# Altium schematic symbol library Schlib1.SchLib: 5 symbols
Pins are listed as number, name and electrical type; pins without a type are passive.

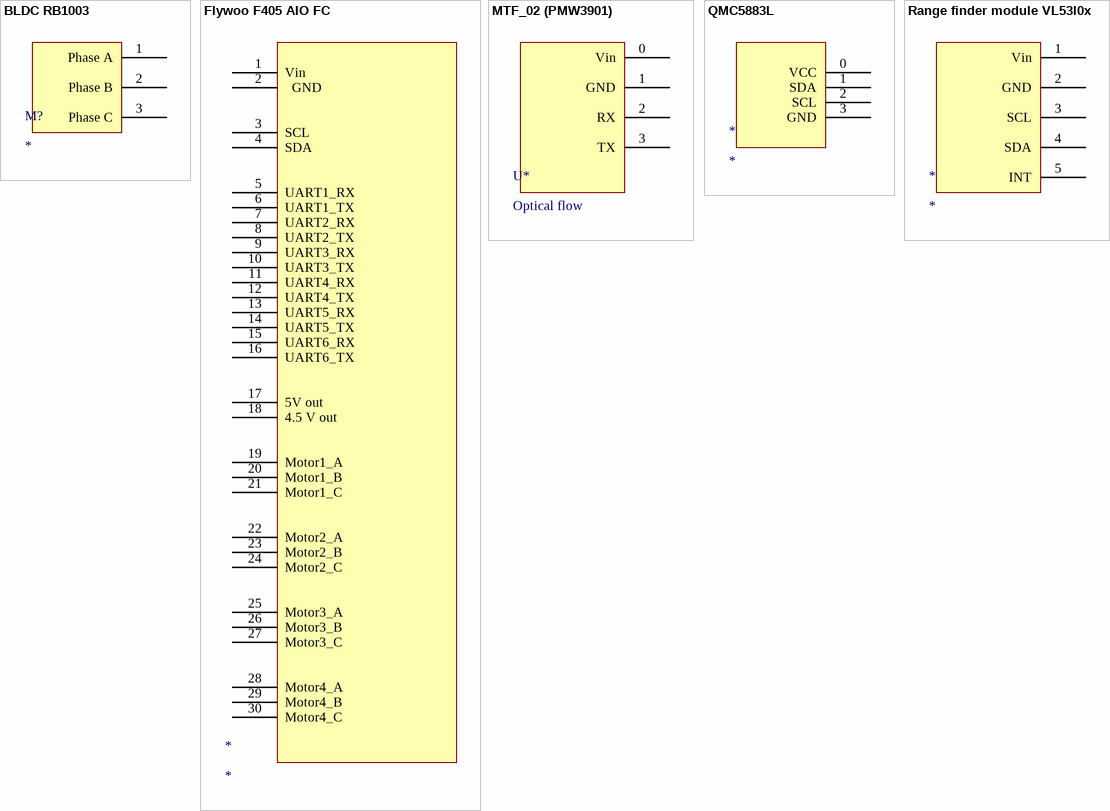
[diagram p0: symbols BLDC RB1003 to Range finder module VL53l0x]

## BLDC RB1003
designator M?
pins: 1 Phase A, 2 Phase B, 3 Phase C

## Flywoo F405 AIO FC
designator *
pins: 1 Vin, 2   GND, 3 SCL, 4 SDA, 5 UART1_RX, 6 UART1_TX, 7 UART2_RX, 8 UART2_TX, 9 UART3_RX, 10 UART3_TX, 11 UART4_RX, 12 UART4_TX, 13 UART5_RX, 14 UART5_TX, 15 UART6_RX, 16 UART6_TX, 17 5V out, 18 4.5 V out, 19 Motor1_A, 20 Motor1_B, 21 Motor1_C, 22 Motor2_A, 23 Motor2_B, 24 Motor2_C, 25 Motor3_A, 26 Motor3_B, 27 Motor3_C, 28 Motor4_A, 29 Motor4_B, 30 Motor4_C

## MTF_02 (PMW3901)
designator U*, comment Optical flow
pins: 0 Vin, 1 GND, 2 RX, 3 TX

## QMC5883L
designator *
pins: 0 VCC, 1 SDA, 2 SCL, 3 GND

## Range finder module VL53l0x
designator *
pins: 1 Vin, 2 GND, 3 SCL, 4 SDA, 5 INT